# Altium footprint library SOIC.PcbLib: 5 footprints
Each footprint in its own frame and in the unit in brackets; x right, y up, seen from the top. Pads: shape width x height; smd on the part's side, far side on the other; paste and mask are expansions set on the pad; w line width, h text height; cw(c..) or ccw(c..) is an arc to the next point about the centre after c.
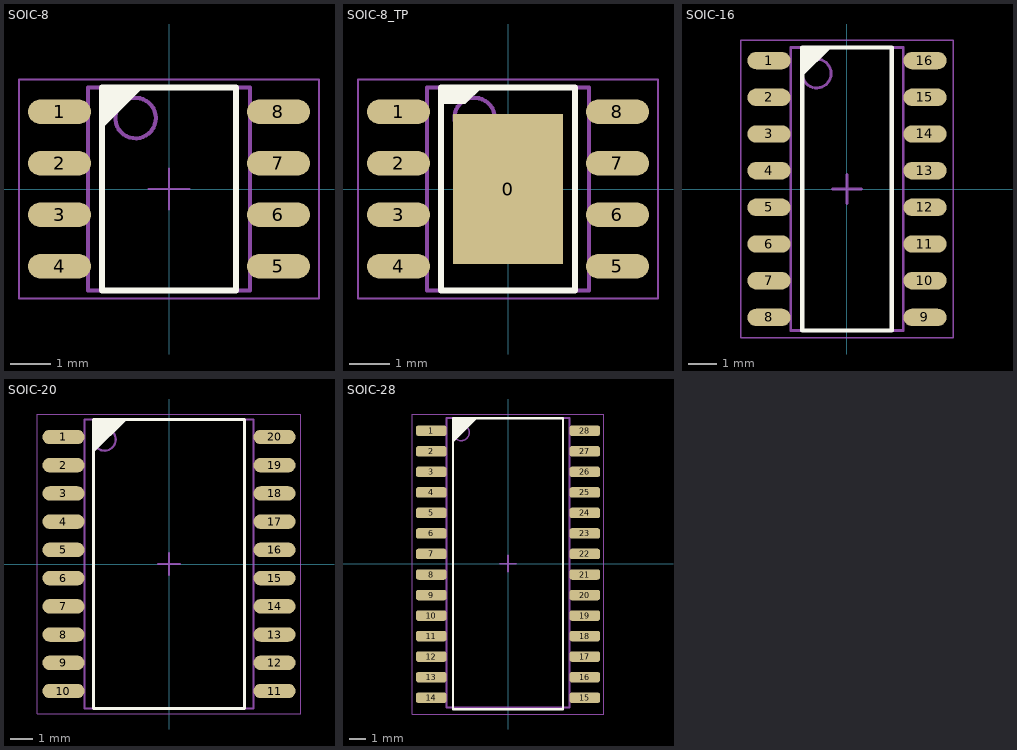
[diagram p0: the footprints below, top view; thin cyan lines are the x and y axes]

## SOIC-8 [mm]
pads (8):
  oval 1.55x0.6 smd: 1(-2.7,1.905) 2(-2.7,0.635) 3(-2.7,-0.635) 4(-2.7,-1.905) 5(2.7,-1.905) 6(2.7,-0.635) 7(2.7,0.635) 8(2.7,1.905)
Top Overlay:
  region: -0.65,2.5 -1.65,1.5 -1.65,2.5
  lines w0.15: -1.65,-2.5 -1.65,2.5 1.65,2.5 1.65,-2.5 -1.65,-2.5
ASM Top:
  circle w0.1: c-0.825,1.75 r0.5
  lines w0.1: -2,-2.5 -2,2.5 2,2.5 2,-2.5 -2,-2.5
  text ".Designator" at -0.8,-1 h0.9
PNP Top:
  lines w0.05: -0.5,0 0.5,0 ; 0,-0.5 0,0.5 ; -3.7,-2.7 -3.7,2.7 3.7,2.7 3.7,-2.7 -3.7,-2.7
3D body "SOIC127P600X175-8N.stp": height 1.75, standoff 0, extent -3.1,-2.5 3.1,2.5

## SOIC-8_TP [mm]
pads (9):
  rect 2.71x3.7 smd: 0(0,0)
  oval 1.55x0.6 smd: 1(-2.7,1.905) 2(-2.7,0.635) 3(-2.7,-0.635) 4(-2.7,-1.905) 5(2.7,-1.905) 6(2.7,-0.635) 7(2.7,0.635) 8(2.7,1.905)
Top Overlay:
  region: -0.65,2.5 -1.05,2.1 -1.65,2.1 -1.65,2.5
  lines w0.15: -1.65,-2.5 1.65,-2.5 1.65,2.5 -1.65,2.5 -1.65,-2.5
ASM Top:
  circle w0.1: c-0.825,1.75 r0.5
  lines w0.1: -2,-2.5 2,-2.5 2,2.5 -2,2.5 -2,-2.5
  text ".Designator" at -0.8,-1 h0.9
PNP Top:
  lines w0.05: -0.5,0 0.5,0 ; 0,-0.5 0,0.5 ; -3.7,-2.7 3.7,-2.7 3.7,2.7 -3.7,2.7 -3.7,-2.7
3D body "SOIC127P600X175-8N.stp": height 1.75, standoff 0, extent -3.1,-2.5 3.1,2.5

## SOIC-16 [mm] "SOIC, 16-Leads, Body 9,90x3,90mm, Pitch 1,27mm, IPC Medium Density"
height 1.75
pads (16):
  oval 1.5x0.6 smd: 1(-2.7,4.445) 2(-2.7,3.175) 3(-2.7,1.905) 4(-2.7,0.635) 5(-2.7,-0.635) 6(-2.7,-1.905) 7(-2.7,-3.175) 8(-2.7,-4.445) 9(2.7,-4.445) 10(2.7,-3.175) 11(2.7,-1.905) 12(2.7,-0.635) 13(2.7,0.635) 14(2.7,1.905) 15(2.7,3.175) 16(2.7,4.445)
Top Overlay:
  region: -0.55,4.9 -1.55,3.9 -1.55,4.9
  lines w0.15: -1.55,-4.9 -1.55,4.9 1.55,4.9 1.55,-4.9 -1.55,-4.9
ASM Top:
  circle w0.1: c-1.05,4 r0.5
  lines w0.1: -1.95,-4.9 1.95,-4.9 1.95,4.9 -1.95,4.9 -1.95,-4.9
  text ".Designator" at -1.5,-1.7 h1.5
PNP Top:
  lines w0.05: -3.675,-5.15 -3.675,5.15 3.675,5.15 3.675,-5.15 -3.675,-5.15
  lines w0.1: -0.5,0 0.5,0 ; 0,-0.5 0,0.5
3D body "SOIC127P600X175-16N.step": height 1.75, standoff 0, extent -3,-4.9 3,4.9

## SOIC-20 [mm] "SOIC, 20-Leads, Body 12,80x7,50mm, Pitch 1,27mm, IPC Medium Density"
height 2.65
pads (20):
  oval 1.9x0.65 smd: 1(-4.75,5.715) 2(-4.75,4.445) 3(-4.75,3.175) 4(-4.75,1.905) 5(-4.75,0.635) 6(-4.75,-0.635) 7(-4.75,-1.905) 8(-4.75,-3.175) 9(-4.75,-4.445) 10(-4.75,-5.715) 11(4.75,-5.715) 12(4.75,-4.445) 13(4.75,-3.175) 14(4.75,-1.905) 15(4.75,-0.635) 16(4.75,0.635) 17(4.75,1.905) 18(4.75,3.175) 19(4.75,4.445) 20(4.75,5.715)
Top Overlay:
  region: -3.4,5 -1.9,6.5 -3.4,6.5
  lines w0.15: -3.4,-6.5 -3.4,6.5 3.4,6.5 3.4,-6.5 -3.4,-6.5
ASM Top:
  circle w0.1: c-2.9,5.6 r0.5
  lines w0.1: -3.8,-6.5 3.8,-6.5 3.8,6.5 -3.8,6.5 -3.8,-6.5
  text ".Designator" at -1.9,-1.7 h1.5
PNP Top:
  lines w0.05: -5.925,-6.75 -5.925,6.75 5.925,6.75 5.925,-6.75 -5.925,-6.75
  lines w0.1: -0.5,0 0.5,0 ; 0,-0.5 0,0.5
3D body "SOIC127P1030X265-20N.step": height 2.65, standoff 0, extent -5.15,-6.5 5.15,6.5

## SOIC-28 [mm] "SOIC, 20-Leads, Body 12,80x7,50mm, Pitch 1,27mm, IPC Medium Density"
height 2.65
pads (28):
  rrect50% 1.9x0.65 smd: 1(-4.75,8.215) 2(-4.75,6.945) 3(-4.75,5.675) 4(-4.75,4.405) 5(-4.75,3.135) 6(-4.75,1.865) 7(-4.75,0.595) 8(-4.75,-0.675) 9(-4.75,-1.945) 10(-4.75,-3.215) 11(-4.75,-4.485) 12(-4.75,-5.755) 13(-4.75,-7.025) 14(-4.75,-8.295) 15(4.75,-8.295) 16(4.75,-7.025) 17(4.75,-5.755) 18(4.75,-4.485) 19(4.75,-3.215) 20(4.75,-1.945) 21(4.75,-0.675) 22(4.75,0.595) 23(4.75,1.865) 24(4.75,3.135) 25(4.75,4.405) 26(4.75,5.675) 27(4.75,6.945) 28(4.75,8.215)
Top Overlay:
  region: -3.4,7.5 -1.9,9 -3.4,9
  lines w0.15: -3.4,-9 3.4,-9 3.4,9 -3.4,9 -3.4,-9
ASM Top:
  circle w0.1: c-2.9,8.1 r0.5
  lines w0.1: -3.8,-8.9 -3.8,9 3.8,9 3.8,-8.9 -3.8,-8.9
  text ".Designator" at -1.375,-0.625 h1.5
PNP Top:
  lines w0.05: -5.925,-9.3 5.925,-9.3 5.925,9.25 -5.925,9.25 -5.925,-9.3
  lines w0.1: -0.5,0 0.5,0 ; 0,-0.5 0,0.5
3D body "SOP28.stp": height 2.8, standoff 0, extent -5.1,-8.875 5.1,8.875